# EAGLE library part GH1.25-11P (library JST-GH1.25)
JST GH 1.25mm PITCH SMD HEADER
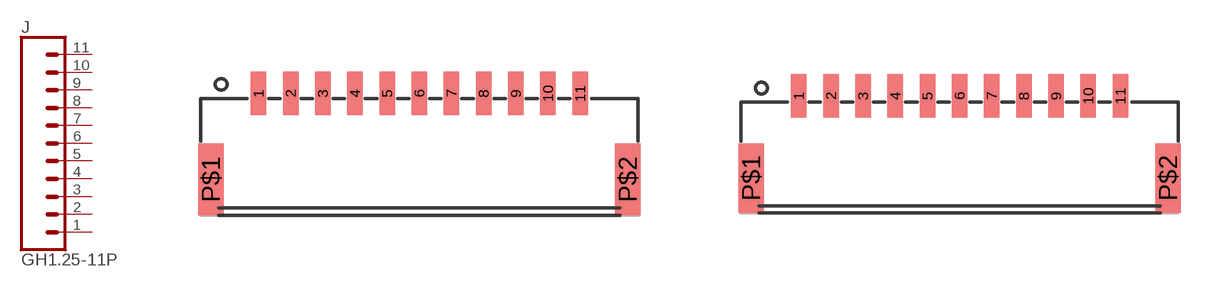
[diagram p5: symbol with the pads of BM11B-GHS-TBT; footprints BM11B-GHS-TBT, SM11B-GHS-TB]

Designator prefix J

## GH1.25-11P-BM11B-GHS-TBT  [BM11B-GHS-TBT]
1  1  pas
2  2  pas
3  3  pas
4  4  pas
5  5  pas
6  6  pas
7  7  pas
8  8  pas
9  9  pas
10  10  pas
11  11  pas

## GH1.25-11P-SM11B-GHS-TB  [SM11B-GHS-TB]
Pads as for BM11B-GHS-TBT

## Footprint BM11B-GHS-TBT (pad centres in mm)
TOP ENTRY JST GH 1.25mm SMD HEADER
smd 0.6 x 1.7: 1 -6.25,4.75; 2 -5,4.75; 3 -3.75,4.75; 4 -2.5,4.75; 5 -1.25,4.75; 6 0,4.75; 7 1.25,4.75; 8 2.5,4.75; 9 3.75,4.75; 10 5,4.75; 11 6.25,4.75
smd 1 x 2.8: P$1 -8.1,1.4; P$2 8.1,1.4

## Footprint SM11B-GHS-TB (pad centres in mm)
SIDE ENTRY JST GH 1.25mm SMD HEADER
smd 0.6 x 1.7: 1 -6.25,4.55; 2 -5,4.55; 3 -3.75,4.55; 4 -2.5,4.55; 5 -1.25,4.55; 6 0,4.55; 7 1.25,4.55; 8 2.5,4.55; 9 3.75,4.55; 10 5,4.55; 11 6.25,4.55
smd 1 x 2.7: P$1 -8.1,1.35; P$2 8.1,1.35